# Altium footprint library LDO_DCDC.PcbLib: 24 footprints (part 1 of 2)
Each footprint in its own frame and in the unit in brackets; x right, y up, seen from the top. Pads: shape width x height; smd on the part's side, far side on the other; paste and mask are expansions set on the pad; w line width, h text height; cw(c..) or ccw(c..) is an arc to the next point about the centre after c.
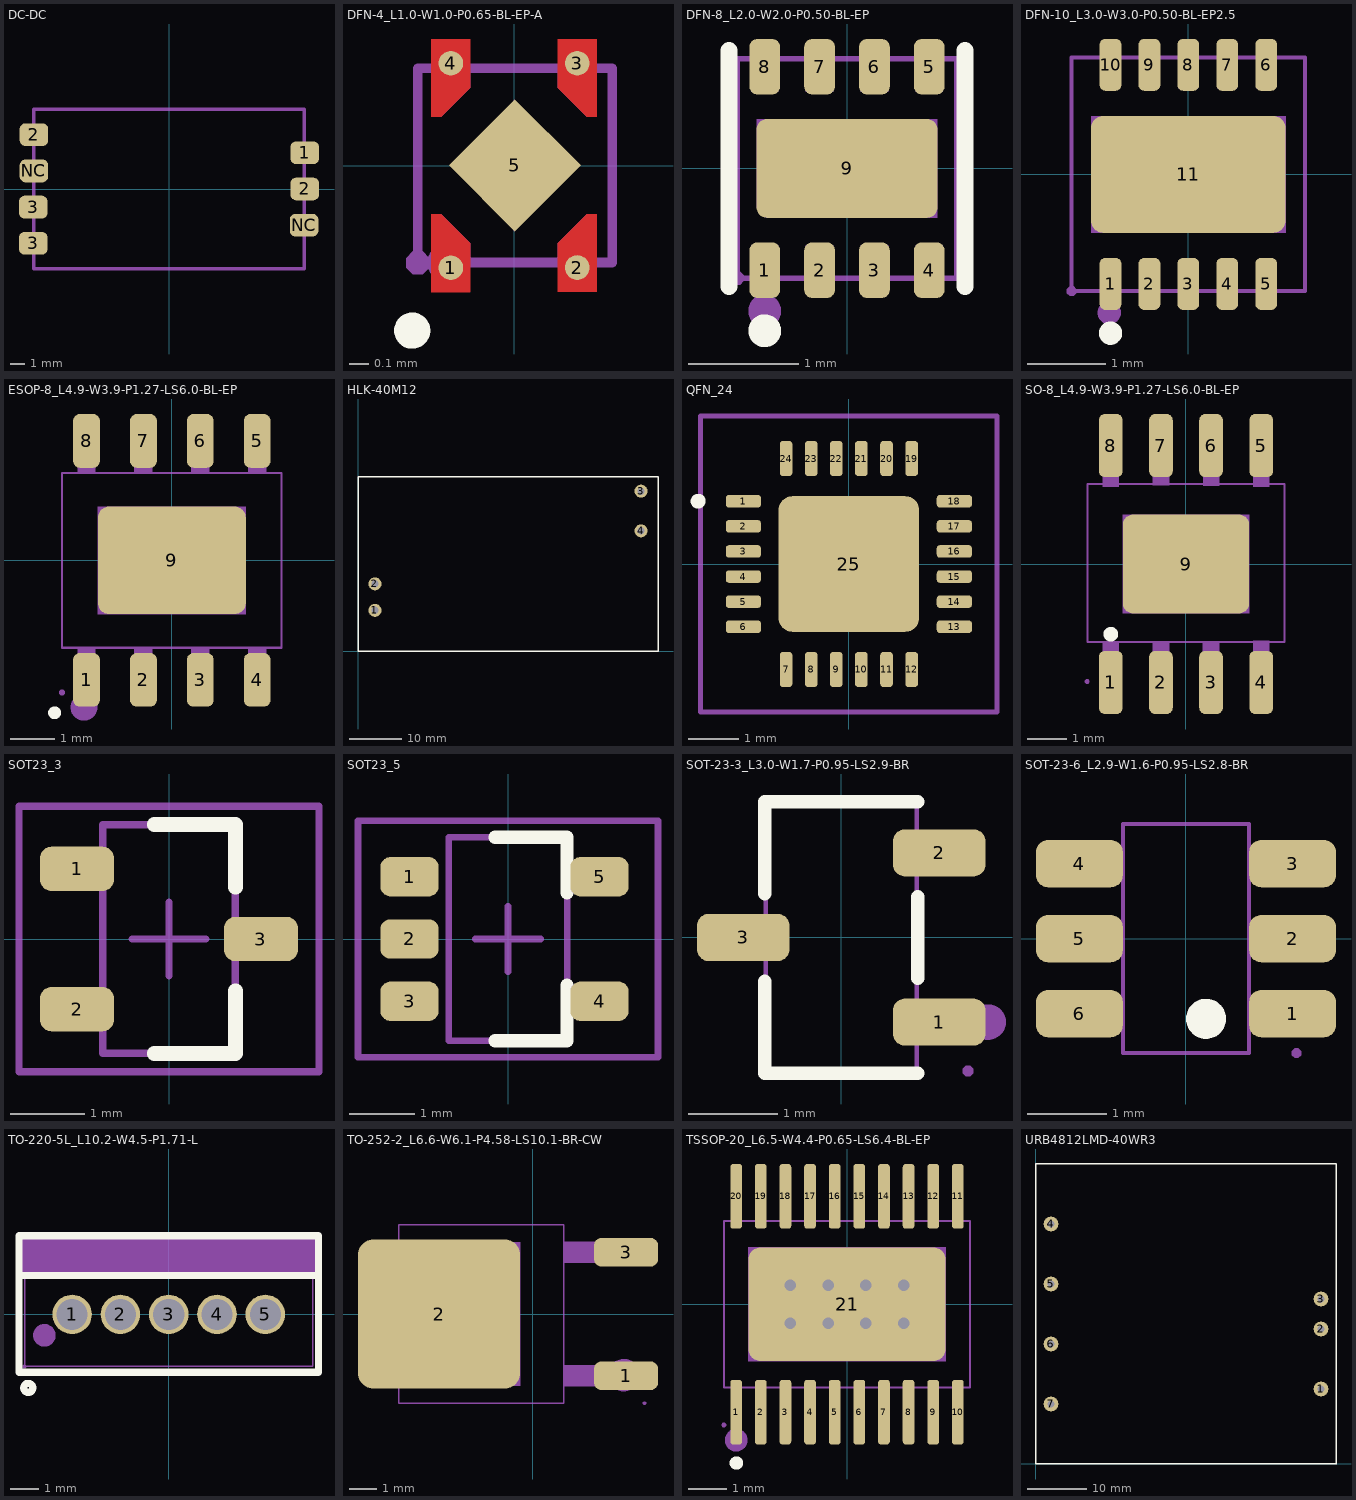
[diagram p0: the footprints below, top view; thin cyan lines are the x and y axes]

## DC-DC [mm]
pads (7):
  rrect50% 2x1.6 smd: 1(9.524,2.54) 2(-9.476,3.81) 2(9.524,0) 3(-9.524,-3.81) 3(-9.524,-1.27) NC(-9.476,1.27) NC(9.476,-2.54)
Mechanical 13:
  lines w0.254: -9.5,-5.6 9.5,-5.6 9.5,5.6 -9.5,5.6 -9.5,-5.6

## DFN-4_L1.0-W1.0-P0.65-BL-EP-A [mil]
pads (5):
  round 5 smd mask+0: 1(-12.8,-20.69) 2(12.79,-20.65) 3(12.79,20.71) 4(-12.8,20.7)
  rect 18.9x18.9 smd rot 45: 5(0.17,0.02)
Top Layer:
  region: 16.73,-25.57 8.86,-25.57 8.86,-15.72 14.76,-9.82 16.73,-9.82
  region: 16.73,25.62 8.86,25.62 8.86,15.78 14.76,9.87 16.73,9.87
  region: -8.86,-15.76 -8.86,-25.61 -16.73,-25.61 -16.73,-9.86 -14.77,-9.86
  region: -16.73,25.61 -8.86,25.61 -8.86,15.77 -14.77,9.86 -16.73,9.86
Top Overlay:
  circle w3.94: c-20.63,-33.42 r1.7
Mechanical 6:
  circle w3.94: c-13.61,-19.67 r1.97
Mechanical 15:
  region: 8.86,19.71 16.73,19.71 16.73,9.87 14.76,9.87 8.86,15.78
  region: -8.86,-19.7 -16.73,-19.7 -16.73,-9.85 -14.77,-9.85 -8.86,-15.76
  region: -8.86,19.71 -16.73,19.71 -16.73,9.87 -14.77,9.87 -8.86,15.77
  region: 8.85,-19.66 16.72,-19.66 16.73,-9.82 14.76,-9.82 8.85,-15.72
  region: -12.35,0.02 0.18,12.55 12.7,0.02 0.17,-12.5
  region: -17.14,-19.7 -17.14,-18.72 -18.53,-17.34 -20.48,-17.34 -21.87,-18.72 -21.87,-19.7 -21.87,-20.68 -20.48,-22.06 -18.53,-22.06 -17.14,-20.68 -17.14,-19.7
  lines w2: -19.5,-19.67 19.86,-19.67 19.86,19.7 -19.5,19.7 -19.5,-19.67

## DFN-8_L2.0-W2.0-P0.50-BL-EP [mm]
pads (9):
  rrect50% 0.28x0.505 smd: 1(-0.75,-0.928) 2(-0.25,-0.928) 3(0.25,-0.928) 4(0.75,-0.928) 5(0.75,0.928) 6(0.25,0.928) 7(-0.25,0.928) 8(-0.75,0.928)
  rrect20% 1.65x0.9 smd: 9(0,0)
Top Overlay:
  circle w0.15: c-0.75,-1.48 r0.075
  lines w0.152: -1.076,-1.076 -1.076,1.076 ; 1.076,-1.076 1.076,1.076
Mechanical 6:
  circle w0.15: c-0.75,-1.3 r0.075
Mechanical 15:
  region: -0.94,-1 -0.94,-0.975 -0.975,-0.94 -1.025,-0.94 -1.06,-0.975 -1.06,-1 -1.06,-1.025 -1.025,-1.06 -0.975,-1.06 -0.94,-1.025 -0.94,-1
  region: -0.875,-1 -0.875,-0.7 -0.625,-0.7 -0.625,-1
  region: -0.375,-1 -0.375,-0.7 -0.125,-0.7 -0.125,-1
  region: 0.125,-1 0.125,-0.7 0.375,-0.7 0.375,-1
  region: 0.625,-1 0.625,-0.7 0.875,-0.7 0.875,-1
  region: 0.625,1 0.625,0.7 0.875,0.7 0.875,1
  region: 0.125,1 0.125,0.7 0.375,0.7 0.375,1
  region: -0.375,1 -0.375,0.7 -0.125,0.7 -0.125,1
  region: -0.875,1 -0.875,0.7 -0.625,0.7 -0.625,1
  region: -0.825,-0.36 -0.825,0.45 0.825,0.45 0.825,-0.45 -0.735,-0.45
  lines w0.051: -1,-1 -1,1 1,1 1,-1 -1,-1

## DFN-10_L3.0-W3.0-P0.50-BL-EP2.5 [mm]
pads (11):
  rrect50% 0.28x0.665 smd paste+0 mask+0.05: 1(-1,-1.407) 2(-0.5,-1.407) 3(0,-1.407) 4(0.5,-1.407) 5(1,-1.407) 6(1,1.407) 7(0.5,1.407) 8(0,1.407) 9(-0.5,1.407) 10(-1,1.407)
  rrect20% 2.5x1.5 smd paste+0 mask+0.05: 11(0,0)
Top Overlay:
  circle w0.15: c-1,-2.04 r0.075
Mechanical 6:
  circle w0.15: c-1.016,-1.778 r0.075
Mechanical 15:
  region: -1.44,-1.5 -1.44,-1.475 -1.475,-1.44 -1.525,-1.44 -1.56,-1.475 -1.56,-1.5 -1.56,-1.525 -1.525,-1.56 -1.475,-1.56 -1.44,-1.525 -1.44,-1.5
  region: -1.12,1.5 -1.12,1.1 -0.88,1.1 -0.88,1.5
  region: -0.62,1.5 -0.62,1.1 -0.38,1.1 -0.38,1.5
  region: -0.12,1.5 -0.12,1.1 0.12,1.1 0.12,1.5
  region: 0.38,1.5 0.38,1.1 0.62,1.1 0.62,1.5
  region: 0.88,1.5 0.88,1.1 1.12,1.1 1.12,1.5
  region: 0.88,-1.5 0.88,-1.1 1.12,-1.1 1.12,-1.5
  region: 0.38,-1.5 0.38,-1.1 0.62,-1.1 0.62,-1.5
  region: -0.12,-1.5 -0.12,-1.1 0.12,-1.1 0.12,-1.5
  region: -0.62,-1.5 -0.62,-1.1 -0.38,-1.1 -0.38,-1.5
  region: -1.12,-1.5 -1.12,-1.1 -0.88,-1.1 -0.88,-1.5
  region: -1.25,0.75 1.25,0.75 1.25,-0.75 -1.25,-0.75
  lines w0.051: -1.5,-1.5 -1.5,1.5 1.5,1.5 1.5,-1.5 -1.5,-1.5

## ESOP-8_L4.9-W3.9-P1.27-LS6.0-BL-EP [mm]
pads (9):
  rrect50% 0.6x1.2 smd: 1(-1.905,-2.667) 2(-0.635,-2.667) 3(0.635,-2.667) 4(1.905,-2.667) 5(1.905,2.667) 6(0.635,2.667) 7(-0.635,2.667) 8(-1.905,2.667)
  rrect20% 3.3x2.4 smd: 9(0,0)
Top Overlay:
  circle w0.254: c-2.616,-3.404 r0.016
Mechanical 6:
  circle w0.3: c-1.96,-3.28 r0.15
Mechanical 15:
  region: 1.65,-1.2 -1.65,-1.2 -1.65,1.2 1.65,1.2
  region: 1.705,-2.95 1.705,-2.3 2.105,-2.3 2.105,-2.95
  region: 1.705,-2.31 1.705,-1.94 2.105,-1.94 2.105,-2.31
  region: 0.435,-2.95 0.435,-2.3 0.835,-2.3 0.835,-2.95
  region: 0.435,-2.31 0.435,-1.94 0.835,-1.94 0.835,-2.31
  region: -0.835,-2.95 -0.835,-2.3 -0.435,-2.3 -0.435,-2.95
  region: -0.835,-2.31 -0.835,-1.94 -0.435,-1.94 -0.435,-2.31
  region: -2.105,-2.95 -2.105,-2.3 -1.705,-2.3 -1.705,-2.95
  region: -2.105,-2.31 -2.105,-1.94 -1.705,-1.94 -1.705,-2.31
  region: 1.705,2.3 1.705,2.95 2.105,2.95 2.105,2.3
  region: 1.705,1.94 1.705,2.31 2.105,2.31 2.105,1.94
  region: 0.435,2.3 0.435,2.95 0.835,2.95 0.835,2.3
  region: 0.435,1.94 0.435,2.31 0.835,2.31 0.835,1.94
  region: -0.835,2.3 -0.835,2.95 -0.435,2.95 -0.435,2.3
  region: -0.835,1.94 -0.835,2.31 -0.435,2.31 -0.435,1.94
  region: -2.105,2.3 -2.105,2.95 -1.705,2.95 -1.705,2.3
  region: -2.105,1.94 -2.105,2.31 -1.705,2.31 -1.705,1.94
  region: -2.394,-2.95 -2.394,-2.925 -2.429,-2.89 -2.479,-2.89 -2.514,-2.925 -2.514,-2.95 -2.514,-2.975 -2.479,-3.01 -2.429,-3.01 -2.394,-2.975 -2.394,-2.95
  lines w0.051: -2.45,-1.95 -2.45,1.95 2.45,1.95 2.45,-1.95 -2.45,-1.95
3D body "TD1410.SLDPRT": height 1.61, standoff -0.04, extent -2.45,-2.74 2.45,2.74

## HLK-40M12 [mm]
pads (4):
  round 2.5 hole 1.4: 1(3.25,7.86) 2(3.25,12.94) 3(54.25,30.72) 4(54.25,23.1)
Top Overlay:
  lines w0.254: 0,0 0,33.5 57.5,33.5 57.5,0 0,0

## QFN_24 [mm] "QFN_24"
pads (25):
  rrect50% 0.7x0.25 smd: 1(-2.1,1.25) 2(-2.1,0.75) 3(-2.1,0.25) 4(-2.1,-0.25) 5(-2.1,-0.75) 6(-2.1,-1.25) 13(2.1,-1.25) 14(2.1,-0.75) 15(2.1,-0.25) 16(2.1,0.25) 17(2.1,0.75) 18(2.1,1.25)
  rrect50% 0.25x0.7 smd: 7(-1.25,-2.1) 8(-0.75,-2.1) 9(-0.25,-2.1) 10(0.25,-2.1) 11(0.75,-2.1) 12(1.25,-2.1) 19(1.25,2.1) 20(0.75,2.1) 21(0.25,2.1) 22(-0.25,2.1) 23(-0.75,2.1) 24(-1.25,2.1)
  rrect20% 2.8x2.7 smd: 25(0,0)
Top Overlay:
  circle w0.25: c-3,1.25 r0.023
Mechanical 15:
  lines w0.1: -0.5,0 0.5,0 ; 0,-0.5 0,0.5 ; -2.95,-2.95 -2.95,2.95 2.95,2.95 2.95,-2.95 -2.95,-2.95
3D body "User Library-mpu-6050_qfn-24.stp": height 0.95, standoff 0.05, extent -2.02,-2.02 2.02,2.02

## SO-8_L4.9-W3.9-P1.27-LS6.0-BL-EP [mm]
pads (9):
  rrect50% 0.6x1.6 smd: 1(-1.905,-3) 2(-0.635,-3) 3(0.635,-3) 4(1.905,-3) 5(1.905,3) 6(0.635,3) 7(-0.635,3) 8(-1.905,3)
  rrect20% 3.2x2.5 smd: 9(0,0)
Top Overlay:
  circle w0.254: c-1.905,-1.778 r0.057
Mechanical 6:
  circle w0.2: c-1.898,-3.235 r0.1
Mechanical 15:
  region: -2.446,-2.976 -2.446,-2.952 -2.481,-2.916 -2.531,-2.916 -2.566,-2.952 -2.566,-2.976 -2.566,-3.001 -2.531,-3.036 -2.481,-3.036 -2.446,-3.001 -2.446,-2.976
  region: -1.6,1.25 1.6,1.25 1.6,-1.25 -1.6,-1.25
  region: -1.7,-2.573 -2.11,-2.573 -2.11,-1.953 -1.7,-1.953
  region: -1.7,-2.97 -2.11,-2.97 -2.11,-2.57 -1.7,-2.57
  region: -0.43,-2.576 -0.84,-2.576 -0.84,-1.956 -0.43,-1.956
  region: -0.43,-2.972 -0.84,-2.972 -0.84,-2.572 -0.43,-2.572
  region: 0.84,-2.573 0.43,-2.573 0.43,-1.953 0.84,-1.953
  region: 0.84,-2.97 0.43,-2.97 0.43,-2.57 0.84,-2.57
  region: 2.11,-2.568 1.7,-2.568 1.7,-1.948 2.11,-1.948
  region: 2.11,-2.962 1.7,-2.962 1.7,-2.562 2.11,-2.562
  region: -1.7,1.962 -2.11,1.962 -2.11,2.582 -1.7,2.582
  region: -1.7,2.577 -2.11,2.577 -2.11,2.977 -1.7,2.977
  region: -0.427,1.99 -0.837,1.99 -0.837,2.61 -0.427,2.61
  region: -0.43,2.605 -0.84,2.605 -0.84,3.005 -0.43,3.005
  region: 0.843,1.982 0.433,1.982 0.433,2.602 0.843,2.602
  region: 0.84,2.597 0.43,2.597 0.43,2.997 0.84,2.997
  region: 2.11,1.962 1.7,1.962 1.7,2.582 2.11,2.582
  region: 2.11,2.58 1.7,2.58 1.7,2.98 2.11,2.98
  lines w0.051: -2.5,-1.97 2.5,-1.97 2.5,2.03 -2.5,2.03 -2.5,-1.97
3D body "SW3DPS-SO-8-DEFAULT.STEP": height 1.45, standoff 0, extent -2.464,-2.889 2.439,2.889

## SOT23_3 [mm] "SOT23, 3-Leads, Body 3.1x3.0mm (max), Pitch 0.95mm, IPC Medium Density"
height 1.2
pads (3):
  rrect50% 1x0.6 smd: 1(-1.246,0.95) 2(-1.246,-0.95) 3(1.246,0)
Top Overlay:
  lines w0.2: -0.2,-1.55 0.9,-1.55 0.9,-0.7 ; -0.2,1.55 0.9,1.55 0.9,0.7
Mechanical 13:
  lines w0.1: -0.9,-1.55 0.9,-1.55 0.9,1.55 -0.9,1.55 -0.9,-1.55
Mechanical 15:
  lines w0.1: -0.5,0 0.5,0 ; 0,-0.5 0,0.5 ; -2.032,-1.8 2.032,-1.8 2.032,1.8 -2.032,1.8 -2.032,-1.8
3D body "SOT-23-3.stp": height 1.2, standoff 0, extent -1.298,-1.45 1.502,1.45

## SOT23_5 [mm] "SOT23_5"
pads (5):
  rrect50% 0.889x0.6 smd: 1(-1.5,0.95) 2(-1.5,0) 3(-1.5,-0.95) 4(1.396,-0.95) 5(1.396,0.95)
Top Overlay:
  lines w0.2: -0.2,-1.55 0.9,-1.55 0.9,-0.7 ; -0.2,1.55 0.9,1.55 0.9,0.7
Mechanical 13:
  lines w0.1: -0.9,-1.55 -0.9,1.55 0.9,1.55 0.9,-1.55 -0.9,-1.55
Mechanical 15:
  lines w0.1: -0.5,0 0.5,0 ; 0,-0.5 0,0.5 ; -2.286,-1.8 -2.286,1.8 2.286,1.8 2.286,-1.8 -2.286,-1.8
3D body "PCB1.stp": height 1.2, standoff 0, extent -1.476,-1.452 1.324,1.448

## SOT-23-3_L3.0-W1.7-P0.95-LS2.9-BR [mm]
pads (3):
  rrect50% 1.037x0.532 smd mask+0.051: 1(1.101,-0.95) 2(1.101,0.95) 3(-1.101,0)
Top Overlay:
  lines w0.152: -0.859,-0.495 -0.859,-1.526 0.859,-1.526 ; -0.859,0.495 -0.859,1.526 0.859,1.526 ; 0.859,-0.455 0.859,0.455
Mechanical 6:
  circle w0.2: c1.65,-0.95 r0.1
Mechanical 15:
  region: 1,-1.137 1,-0.762 1.425,-0.762 1.425,-1.137
  region: 0.815,-1.137 0.815,-0.762 1.01,-0.762 1.01,-1.137
  region: 1,0.762 1,1.137 1.425,1.137 1.425,0.762
  region: 0.815,0.762 0.815,1.137 1.01,1.137 1.01,0.762
  region: -1.425,-0.188 -1.425,0.188 -1,0.188 -1,-0.188
  region: -1.01,-0.188 -1.01,0.188 -0.815,0.188 -0.815,-0.188
  region: 1.485,-1.5 1.485,-1.475 1.45,-1.44 1.4,-1.44 1.365,-1.475 1.365,-1.5 1.365,-1.525 1.4,-1.56 1.45,-1.56 1.485,-1.525 1.485,-1.5
  lines w0.051: -0.85,-1.5 -0.85,1.5 0.85,1.5 0.85,-1.5 -0.85,-1.5

## SOT-23-6_L2.9-W1.6-P0.95-LS2.8-BR [mm]
pads (6):
  rrect50% 1.1x0.6 smd mask+0.051: 1(1.35,-0.95) 2(1.35,0) 3(1.35,0.95) 4(-1.35,0.95) 5(-1.35,0) 6(-1.35,-0.95)
Top Overlay:
  circle w0.254: c0.254,-1.016 r0.127
Mechanical 6:
  circle w0.2: c1.4,-0.95 r0.1
Mechanical 15:
  region: 1.46,-1.45 1.46,-1.425 1.425,-1.39 1.375,-1.39 1.34,-1.425 1.34,-1.45 1.34,-1.475 1.375,-1.51 1.425,-1.51 1.46,-1.475 1.46,-1.45
  region: -0.925,-1.165 -0.925,-0.735 -1.4,-0.735 -1.4,-1.165
  region: -0.925,-0.215 -0.925,0.215 -1.4,0.215 -1.4,-0.215
  region: -0.925,0.735 -0.925,1.165 -1.4,1.165 -1.4,0.735
  region: -0.935,0.735 -0.935,1.165 -0.79,1.165 -0.79,0.735
  region: 0.925,0.735 0.925,1.165 1.4,1.165 1.4,0.735
  region: 0.925,-0.215 0.925,0.215 1.4,0.215 1.4,-0.215
  region: 0.925,-1.165 0.925,-0.735 1.4,-0.735 1.4,-1.165
  region: -0.935,-0.215 -0.935,0.215 -0.79,0.215 -0.79,-0.215
  region: -0.935,-1.165 -0.935,-0.735 -0.79,-0.735 -0.79,-1.165
  region: 0.935,-0.735 0.935,-1.165 0.79,-1.165 0.79,-0.735
  region: 0.935,0.215 0.935,-0.215 0.79,-0.215 0.79,0.215
  region: 0.935,1.165 0.935,0.735 0.79,0.735 0.79,1.165
  lines w0.051: -0.8,-1.45 -0.8,1.45 0.8,1.45 0.8,-1.45 -0.8,-1.45
3D body "sot-23-6.stp": height 1.07, standoff -0.05, extent -1.422,-1.46 1.422,1.46

## TO-220-5L_L10.2-W4.5-P1.71-L [mm]
pads (5):
  round 1.4 hole 1.1 mask+0.051: 1(-3.42,0) 2(-1.71,0) 3(0,0) 4(1.71,0) 5(3.42,0)
Top Overlay:
  circle w0.254: c-4.97,-2.6 r0.16
  lines w0.258: -5.3,1.38 5.3,1.38 ; -5.3,-2.05 -5.3,2.78 5.3,2.78 5.3,-2.05 -5.3,-2.05
Mechanical 6:
  circle w0.4: c-4.4,-0.74 r0.2
  region: -5.24,2.79 5.3,2.79 5.31,2.78 5.31,1.43 5.32,1.42 -5.24,1.42 -5.25,1.41
Mechanical 15:
  region: -2.975,-0.25 -3.865,-0.25 -3.865,0.25 -2.975,0.25
  region: -1.265,-0.25 -2.155,-0.25 -2.155,0.25 -1.265,0.25
  region: 0.445,-0.25 -0.445,-0.25 -0.445,0.25 0.445,0.25
  region: 2.155,-0.25 1.265,-0.25 1.265,0.25 2.155,0.25
  region: 3.865,-0.25 2.975,-0.25 2.975,0.25 3.865,0.25
  region: -5.04,-1.84 -5.04,-1.815 -5.075,-1.78 -5.125,-1.78 -5.16,-1.815 -5.16,-1.84 -5.16,-1.865 -5.125,-1.9 -5.075,-1.9 -5.04,-1.865 -5.04,-1.84
  lines w0.051: -5.1,-1.84 -5.1,2.66 5.1,2.66 5.1,-1.84 -5.1,-1.84

## TO-252-2_L6.6-W6.1-P4.58-LS10.1-BR-CW [mil]
pads (3):
  rrect50% 93.07x41.89 smd: 1(136.3,-90) 3(136.3,90)
  rrect20% 236.37x217.01 smd: 2(-136.3,0)
Mechanical 6:
  circle w23.62: c132.96,-89.11 r11.81
Mechanical 15:
  region: 165.35,-129.92 165.35,-128.94 163.97,-127.56 162.01,-127.56 160.63,-128.94 160.63,-129.92 160.63,-130.9 162.01,-132.28 163.97,-132.28 165.35,-130.9 165.35,-129.92
  region: 162.99,-75.04 101.97,-75.04 101.97,-104.96 162.99,-104.96
  region: 102.36,-75.04 44.92,-75.04 44.92,-104.96 102.36,-104.96
  region: 162.99,104.96 101.97,104.96 101.97,75.04 162.99,75.04
  region: 102.36,104.96 44.92,104.96 44.92,75.04 102.36,75.04
  region: -18.11,-104.33 -212.99,-104.33 -234.65,-82.68 -234.65,82.68 -212.99,104.33 -18.11,104.33
  lines w2: -194.84,-129.92 -194.84,129.92 45.31,129.92 45.31,-129.92 -194.84,-129.92

## TSSOP-20_L6.5-W4.4-P0.65-LS6.4-BL-EP [mm]
pads (21):
  rrect50% 0.308x1.706 smd paste+0.051: 1(-2.925,-2.848) 2(-2.275,-2.848) 3(-1.625,-2.848) 4(-0.975,-2.848) 5(-0.325,-2.848) 6(0.325,-2.848) 7(0.975,-2.848) 8(1.625,-2.848) 9(2.275,-2.848) 10(2.925,-2.848) 11(2.925,2.848) 12(2.275,2.848) 13(1.625,2.848) 14(0.975,2.848) 15(0.325,2.848) 16(-0.325,2.848) 17(-0.975,2.848) 18(-1.625,2.848) 19(-2.275,2.848) 20(-2.925,2.848)
  rrect20% 5.2x3 smd paste+0.051: 21(0,0)
via 1.5,-0.5 diameter 0.61 hole 0.305
via 0.5,-0.5 diameter 0.61 hole 0.305
via -0.5,-0.5 diameter 0.61 hole 0.305
via -1.5,-0.5 diameter 0.61 hole 0.305
via 1.5,0.5 diameter 0.61 hole 0.305
via 0.5,0.5 diameter 0.61 hole 0.305
via -0.5,0.5 diameter 0.61 hole 0.305
via -1.5,0.5 diameter 0.61 hole 0.305
Top Overlay:
  circle w0.3: c-2.921,-4.191 r0.025
Mechanical 2:
  circle w0.3: c-2.925,-3.587 r0.15
Mechanical 6:
  lines w0.051: -3.25,-2.195 3.25,-2.195 3.25,2.195 -3.25,2.195 -3.25,-2.195
Mechanical 7:
  region: 2.815,2.598 2.815,2.185 3.035,2.185 3.035,2.598
  region: 2.165,2.598 2.165,2.185 2.385,2.185 2.385,2.598
  region: 1.515,2.598 1.515,2.185 1.735,2.185 1.735,2.598
  region: 0.865,2.598 0.865,2.185 1.085,2.185 1.085,2.598
  region: 0.215,2.598 0.215,2.185 0.435,2.185 0.435,2.598
  region: -0.435,2.598 -0.435,2.185 -0.215,2.185 -0.215,2.598
  region: -1.085,2.598 -1.085,2.185 -0.865,2.185 -0.865,2.598
  region: -1.735,2.598 -1.735,2.185 -1.515,2.185 -1.515,2.598
  region: -2.385,2.598 -2.385,2.185 -2.165,2.185 -2.165,2.598
  region: -3.035,2.598 -3.035,2.185 -2.815,2.185 -2.815,2.598
  region: 2.815,-2.598 2.815,-2.185 3.035,-2.185 3.035,-2.598
  region: 2.165,-2.598 2.165,-2.185 2.385,-2.185 2.385,-2.598
  region: 1.515,-2.598 1.515,-2.185 1.735,-2.185 1.735,-2.598
  region: 0.865,-2.598 0.865,-2.185 1.085,-2.185 1.085,-2.598
  region: 0.215,-2.598 0.215,-2.185 0.435,-2.185 0.435,-2.598
  region: -0.435,-2.598 -0.435,-2.185 -0.215,-2.185 -0.215,-2.598
  region: -1.085,-2.598 -1.085,-2.185 -0.865,-2.185 -0.865,-2.598
  region: -1.735,-2.598 -1.735,-2.185 -1.515,-2.185 -1.515,-2.598
  region: -2.385,-2.598 -2.385,-2.185 -2.165,-2.185 -2.165,-2.598
  region: -3.035,-2.598 -3.035,-2.185 -2.815,-2.185 -2.815,-2.598
Mechanical 8:
  region: -3.19,-3.187 -3.19,-3.212 -3.225,-3.247 -3.275,-3.247 -3.31,-3.212 -3.31,-3.187 -3.31,-3.163 -3.275,-3.127 -3.225,-3.127 -3.19,-3.163 -3.19,-3.187
Mechanical 9:
  region: -2.6,-1.5 -2.6,1.5 2.6,1.5 2.6,-1.5
  region: 2.815,3.187 2.815,2.587 3.035,2.587 3.035,3.187
  region: 2.165,3.187 2.165,2.587 2.385,2.587 2.385,3.187
  region: 1.515,3.187 1.515,2.587 1.735,2.587 1.735,3.187
  region: 0.865,3.187 0.865,2.587 1.085,2.587 1.085,3.187
  region: 0.215,3.187 0.215,2.587 0.435,2.587 0.435,3.187
  region: -0.435,3.187 -0.435,2.587 -0.215,2.587 -0.215,3.187
  region: -1.085,3.187 -1.085,2.587 -0.865,2.587 -0.865,3.187
  region: -1.735,3.187 -1.735,2.587 -1.515,2.587 -1.515,3.187
  region: -2.385,3.187 -2.385,2.587 -2.165,2.587 -2.165,3.187
  region: -3.035,3.187 -3.035,2.587 -2.815,2.587 -2.815,3.187
  region: 2.815,-3.187 2.815,-2.587 3.035,-2.587 3.035,-3.187
  region: 2.165,-3.187 2.165,-2.587 2.385,-2.587 2.385,-3.187
  region: 1.515,-3.187 1.515,-2.587 1.735,-2.587 1.735,-3.187
  region: 0.865,-3.187 0.865,-2.587 1.085,-2.587 1.085,-3.187
  region: 0.215,-3.187 0.215,-2.587 0.435,-2.587 0.435,-3.187
  region: -0.435,-3.187 -0.435,-2.587 -0.215,-2.587 -0.215,-3.187
  region: -1.085,-3.187 -1.085,-2.587 -0.865,-2.587 -0.865,-3.187
  region: -1.735,-3.187 -1.735,-2.587 -1.515,-2.587 -1.515,-3.187
  region: -2.385,-3.187 -2.385,-2.587 -2.165,-2.587 -2.165,-3.187
  region: -3.035,-3.187 -3.035,-2.587 -2.815,-2.587 -2.815,-3.187
3D body "7931392.stp": height 1.1, standoff 0, extent -3.25,-3.175 3.25,3.225

## URB4812LMD-40WR3 [mm]
pads (7):
  round 2.5 hole 1.2: 1(48.26,12.7) 2(48.26,22.86) 3(48.26,27.94) 4(2.54,40.64) 5(2.54,30.48) 6(2.54,20.32) 7(2.54,10.16)
Top Overlay:
  lines w0.254: 0,0 50.8,0 50.8,50.8 0,50.8 0,0